# Altium schematic symbol library ICs-Chargers.SchLib: 3 symbols
Pins are listed as number, name and electrical type; pins without a type are passive.

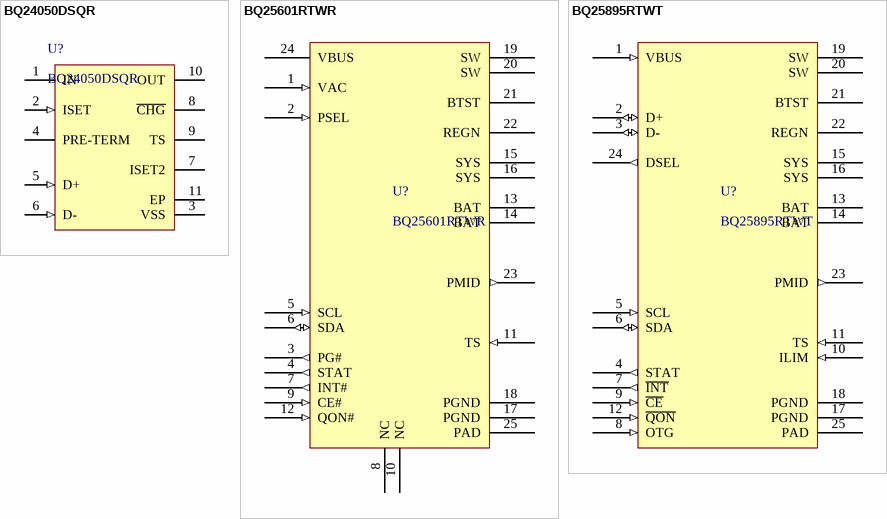
[diagram p0: symbols BQ24050DSQR to BQ25895RTWT]

## BQ24050DSQR
designator U?
Manufacturer: Texas Instruments; PartNumber: BQ24050DSQR; PackageReference: WSON-10; Mounting Technology: Surface Mount
footprint WSON-10 (SON, 10-Leads, Body 2.00x2.00mm, Pitch 0.40mm, Thermal Pad 1.50x0.79mm, IPC Medium Density)
pins: 1 IN (power) "Input power, connected to external DC supply (AC adapter or USB port). Expected range of bypass capacitors 1 uF to 10 uF, connect from IN to VSS.", 2 ISET (in) "Programs the Fast-charge current setting. External resistor from ISET to VSS defines fast charge current value. Range is 10.8k (50mA) to 675 ohm (800mA).", 3 VSS (power) "Ground terminal.", 4 PRE-TERM "Programs the Current Termination Threshold (5 to 50% of Iout which is set by ISET) and Sets the Pre-Charge Current to twice the Termination Current Level. Expected range of programming resistor is 1k to 10 k ohm(2k: IOUT / (See Datasheet)", 5 D+ (in) "USB port D+ input connection.", 6 D- (in) "USB port D- input connection.", 7 ISET2 "Programming the Input / Output Current Limit for the USB or Adaptor source: High =500 mA max, Low = ISET, FLOAT = 100mA max. D+ D- Detection initially sets the charge threshold and requires ISET2 to change states to take (See Datasheet)", 8 ~{CHG} (hiz) "Low (FET on) indicates charging and Open Drain (FET off) indicates no Charging or Charge complete.", 9 TS "Temperature sense pin connected to ' 0/55 -10k at 25C NTC thermistor, ' 2 - 100k NTC at 25 degC, in the battery pack. Floating TS Pin or pulling High puts part in TTDM and disable TS monitoring, Timers and Termination. (See Datasheet)", 10 OUT (power) "Battery Connection. System Load may be connected. Average load should not be excessive, allowing battery to charge within the 10 hour safety timer window. Expected range of bypass capacitors 1 uF to 10 uF.", 11 EP (power) "There is an internal electrical connection between the exposed thermal pad and the VSS pin of the device. The thermal pad must be connected to the same potential as the VSS pin on the printed circuit board. Do not use the (See Datasheet)"

## BQ25601RTWR
designator U?
Battery Management I2C Controlled Single Cell 3-A Battery Charger with High Input Voltage and Power Path 24-WQFN -40 to 85; Manufacturer: Texas Instruments; PartNumber: BQ25601RTWR; PackageReference: WQFN-24; Mounting Technology: Surface Mount
footprint WQFN-24 (QFN, 24-Leads, Body 4.00x4.00mm, Pitch 0.50mm, Thermal Pad 2.70x2.70mm, IPC Medium Density)
pins: 1 VAC (in), 2 PSEL (in), 3 PG# (out), 4 STAT (out), 5 SCL (in), 6 SDA (io), 7 INT# (out), 8 NC, 9 CE# (in), 10 NC, 11 TS (in), 12 QON# (in), 13 BAT (power), 14 BAT (power), 15 SYS (power), 16 SYS (power), 17 PGND (power), 18 PGND (power), 19 SW (power), 20 SW (power), 21 BTST (power), 22 REGN (power), 23 PMID (out), 24 VBUS (power), 25 PAD (power)

## BQ25895RTWT
designator U?
IC NVDC CHARGER I2C 24WQFN; Manufacturer: Texas Instruments; PartNumber: BQ25895RTWT; PackageReference: WQFN-24; Mounting Technology: Surface Mount
footprint WQFN-24 (QFN, 24-Leads, Body 4.00x4.00mm, Pitch 0.50mm, Thermal Pad 2.70x2.70mm, IPC Medium Density)
pins: 1 VBUS (in), 2 D+ (io), 3 D- (io), 4 STAT (out), 5 SCL (in), 6 SDA (io), 7 ~{INT} (out), 8 OTG (in), 9 ~{CE} (in), 10 ILIM (in), 11 TS (in), 12 ~{QON} (in), 13 BAT (power), 14 BAT (power), 15 SYS (power), 16 SYS (power), 17 PGND (power), 18 PGND (power), 19 SW (power), 20 SW (power), 21 BTST (power), 22 REGN (power), 23 PMID (out), 24 DSEL (out), 25 PAD (power)